# EAGLE library part SN74LVC1G3157DBVR (library SN74LVC1G3157DBVR)
SINGLE-POLE, DOUBLE-THROW ANALOG SWITCH Source: Datasheet <http://componentsearchengine.com/Datasheets/1/SN74LVC1G3157DBVR.pdf>
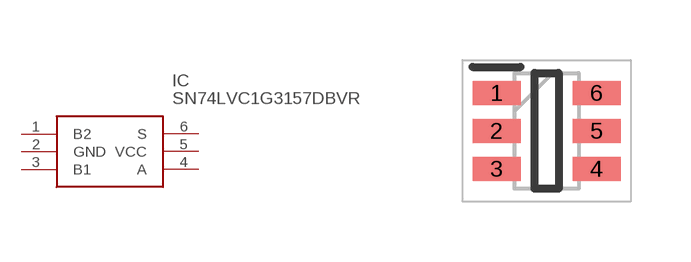
[diagram p0: symbol with the pads of SOT95P280X145-6N; footprint SOT95P280X145-6N]

Designator prefix IC

## SN74LVC1G3157DBVR (Arrow_Part_Number: SN74LVC1G3157DBVR; Arrow_Price-Stock: https://www.arrow.com/en/products/sn74lvc1g3157dbvr/texas-instruments?utm_currency=USD&region=nac; Description: SINGLE-POLE, DOUBLE-THROW ANALOG SWITCH; Height: 1.45mm; Manufacturer_Name: Texas Instruments; Manufacturer_Part_Number: SN74LVC1G3157DBVR; Mouser_Part_Number: 595-SN74LVC1G3157DBV; Mouser_Price-Stock: https://www.mouser.co.uk/ProductDetail/Texas-Instruments/SN74LVC1G3157DBVR?qs=PVVDbbWpW3ID6l2sElWeMw%3D%3D)  [SOT95P280X145-6N]
1  B2
2  GND
3  B1
4  A
5  VCC
6  S

## Footprint SOT95P280X145-6N (pad centres in mm)
DBV (R-PDSO-G6)
smd 1.2 x 0.6: 1 -1.25,0.95; 2 -1.25,0; 3 -1.25,-0.95; 4 1.25,-0.95; 5 1.25,0; 6 1.25,0.95